# EAGLE library part 1364-MODULE-SMD (library TES)
The 1363/1364 series high voltage power supplies are miniature flyback boost converters operating from 2 to 16VDC input, with an output of 150 to 200VDC set by a single resistor to ground and below 150V with an external bias (See Fig 6b). An enable pin allows the module to be controlled by an external logic signal, drawing only 40uA in shut down.
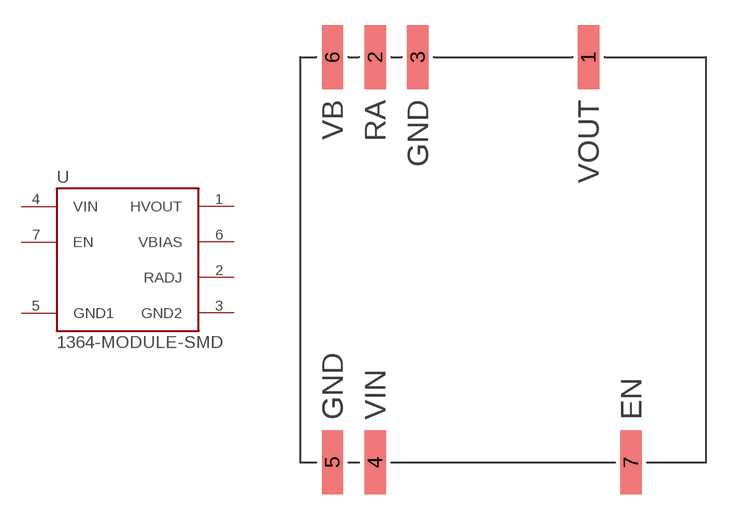
[diagram p0: symbol with the pads of 1364-SMD; footprint 1364-SMD]

Designator prefix -

## 1364-MODULE-SMD  [1364-SMD]
1  HVOUT
2  RADJ
3  GND2
4  VIN
5  GND1
6  VBIAS
7  EN

## Footprint 1364-SMD (pad centres in mm)
smd 1.27 x 3.81: 1 5.08,12.065; 2 -7.62,12.065; 3 -5.08,12.065; 4 -7.62,-12.065; 5 -10.16,-12.065; 6 -10.16,12.065; 7 7.62,-12.065